# Altium schematic symbol library 12BH611-GR.SchLib: 1 symbol
Pins are listed as number, name and electrical type; pins without a type are passive.

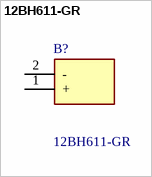
[diagram p0: symbol 12BH611-GR]

## 12BH611-GR
designator B?
9V Battery Snaps & Contacts 9V PC BLK; Manufacturer_Name: Eagle Plastic Devices; Geometry.Height: 21mm; Manufacturer_Part_Number: 12BH611-GR; Mouser Part Number: 12BH611-GR; Mouser Price/Stock: https://www.mouser.co.uk/ProductDetail/Eagle-Plastic-Devices/12BH611-GR?qs=1oCNi33g9sc5AWzrf3Mgtg%3D%3D; Arrow Part Number: *; Arrow Price/Stock: *; Datasheet Link: https://www.mouser.com/datasheet/2/209/EPD-200766-1274481.pdf
footprint 12BH611GR
pins: 1 +, 2 -